# EAGLE library part AD5933YRSZ (library scono)
https://www.digikey.com/product-detail/en/AD5933YRSZ/AD5933YRSZ-ND/756602?utm_campaign=buynow&WT.z_cid=ref_octopart_dkc_buynow&utm_medium=aggregator&curr=usd&site=us&utm_source=octopart
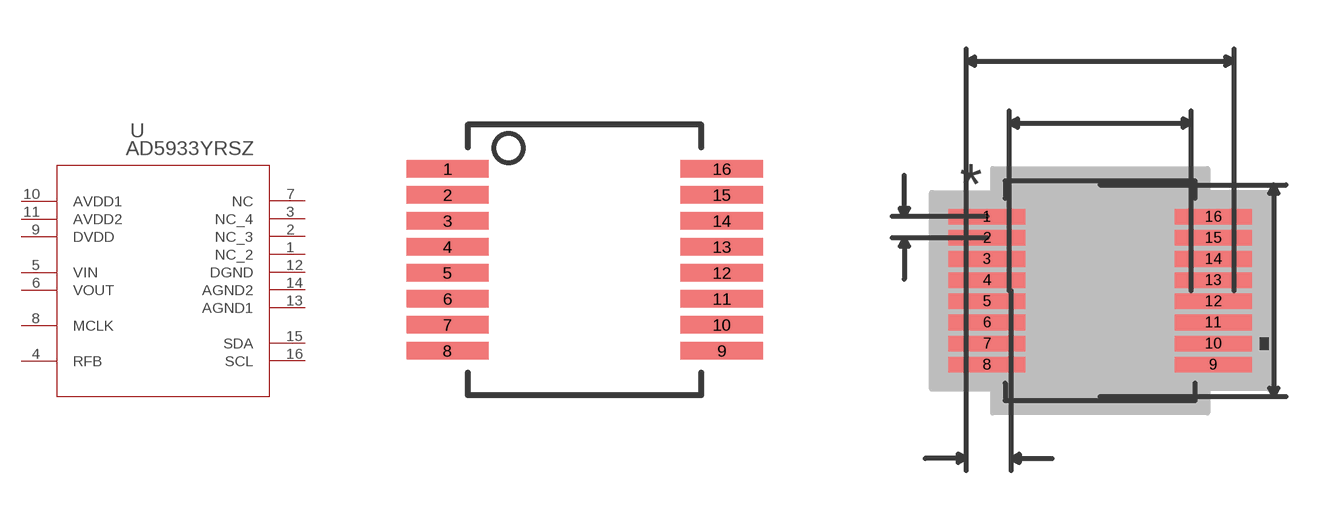
[diagram p53: symbol with the pads of RS_16; footprints RS_16, RS_16-M]

Designator prefix U

## AD5933YRSZ (MANUFACTURER_PART_NUMBER: AD5933YRSZ; VENDOR: Analog Devices Inc)  [RS_16]
1  NC_2  pas
2  NC_3  pas
3  NC_4  pas
4  RFB  pas
5  VIN  pas
6  VOUT  pas
7  NC  pas
8  MCLK  pas
9  DVDD  pas
10  AVDD1  pas
11  AVDD2  pas
12  DGND  pas
13  AGND1  pas
14  AGND2  pas
15  SDA  pas
16  SCL  pas

## AD5933YRSZRS_16-M (MANUFACTURER_PART_NUMBER: AD5933YRSZ; VENDOR: Analog Devices Inc)  [RS_16-M]
Pads as for RS_16

## AD5933YRSZRS_16-L (MANUFACTURER_PART_NUMBER: AD5933YRSZ; VENDOR: Analog Devices Inc)  [RS_16-L]
Pads as for RS_16

## Footprint RS_16 (pad centres in mm)
smd 2.057 x 0.432: 1 -3.429,2.275; 2 -3.429,1.625; 3 -3.429,0.975; 4 -3.429,0.325; 5 -3.429,-0.325; 6 -3.429,-0.975; 7 -3.429,-1.625; 8 -3.429,-2.275; 9 3.429,-2.275; 10 3.429,-1.625; 11 3.429,-0.975; 12 3.429,-0.325; 13 3.429,0.325; 14 3.429,0.975; 15 3.429,1.625; 16 3.429,2.275

## Footprint RS_16-M (pad centres in mm)
smd 2.362 x 0.483: 1 -3.48,2.275; 2 -3.48,1.625; 3 -3.48,0.975; 4 -3.48,0.325; 5 -3.48,-0.325; 6 -3.48,-0.975; 7 -3.48,-1.625; 8 -3.48,-2.275; 9 3.48,-2.275; 10 3.48,-1.625; 11 3.48,-0.975; 12 3.48,-0.325; 13 3.48,0.325; 14 3.48,0.975; 15 3.48,1.625; 16 3.48,2.275

## Footprint RS_16-L (pad centres in mm)
smd 1.753 x 0.381: 1 -3.378,2.275; 2 -3.378,1.625; 3 -3.378,0.975; 4 -3.378,0.325; 5 -3.378,-0.325; 6 -3.378,-0.975; 7 -3.378,-1.625; 8 -3.378,-2.275; 9 3.378,-2.275; 10 3.378,-1.625; 11 3.378,-0.975; 12 3.378,-0.325; 13 3.378,0.325; 14 3.378,0.975; 15 3.378,1.625; 16 3.378,2.275